# Altium schematic symbol library ssr.SchLib: 1 symbol
Pins are listed as number, name and electrical type; pins without a type are passive.

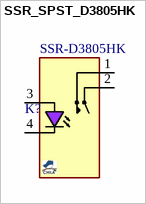
[diagram p0: symbol SSR_SPST_D3805HK]

## SSR_SPST_D3805HK
designator K?, comment SSR-D3805HK
SSR, SPST, 5A, 24-380VAC, 3~32VDC INPUT; MANF: HOYMK; MANF_P#: SSR-D3805HK; PARAM2: 24-380VAC, 3~32VDC INPUT; PARAM: 5A; PRICE: 70t@PAYA; Value: SSR-D3805HK
footprint SSR_SPST_4_4312 (RELAY, SPST, 43X12X25mm, SSR-D3805HK)
pins: 1 NO1, 2 COM1, 3 C+, 4 C-